# Altium footprint library LED.PcbLib: 41 footprints (part 3 of 3)
Each footprint in its own frame and in the unit in brackets; x right, y up, seen from the top. Pads: shape width x height; smd on the part's side, far side on the other; paste and mask are expansions set on the pad; w line width, h text height; cw(c..) or ccw(c..) is an arc to the next point about the centre after c.
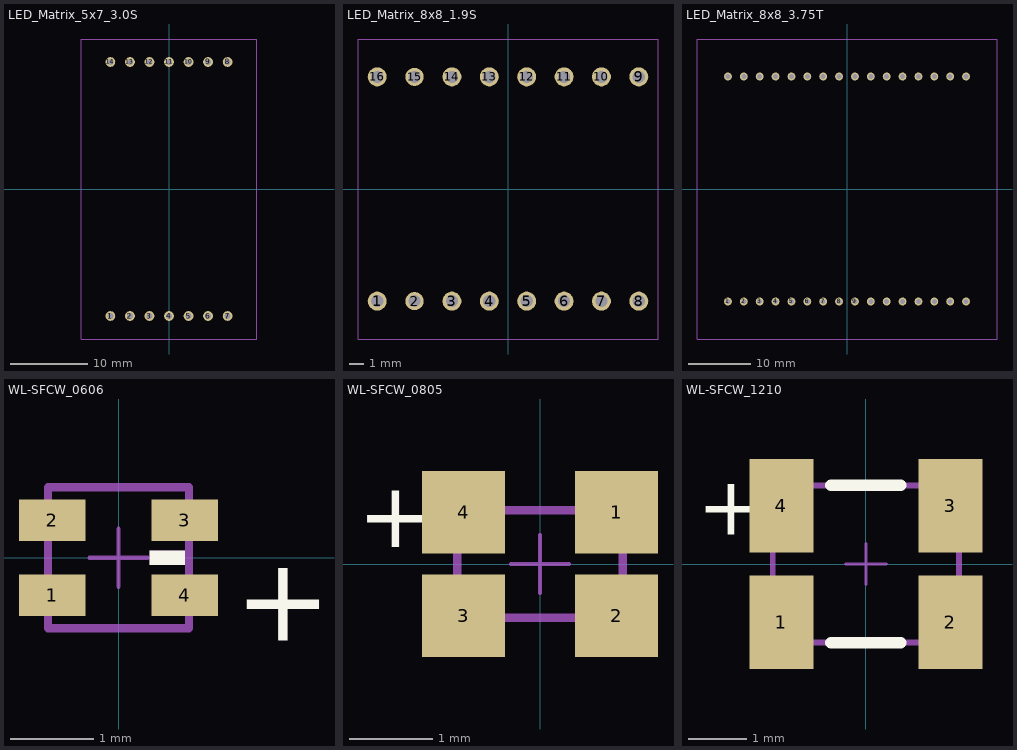
[diagram p2: the footprints below, top view; thin cyan lines are the x and y axes]

## LED_DIP2_5_RED [mil]
height 47.24
3D body "SW3dPS-LEDd5R.STEP": height 484.75, standoff -97.93, extent -123.39,-123.5 90,113.5

## LED_DIP2_5_WHITE [mil]
height 47.24
3D body "SW3dPS-LEDd5C.STEP": height 484.75, standoff -97.93, extent -107.31,-118.49 106.08,118.5

## LED_DIP2_5_YELLOW [mil]
height 47.24
3D body "SW3dPS-LEDd5Y.STEP": height 484.75, standoff -97.93, extent -113.39,-113.5 100,123.5

## LED_Matrix_5x7_3.0S [mil]
pads (14):
  round 50 hole 32: 1(-300,-650) 2(-200,-650) 3(-100,-650) 4(0,-650) 5(100,-650) 6(200,-650) 7(300,-650) 8(300,650) 9(200,650) 10(100,650) 11(0,650) 12(-100,650) 13(-200,650) 14(-300,650)
Mechanical 14:
  lines w2: -448.82,-767.72 -448.82,767.72 448.82,767.72 448.82,-767.72 -448.82,-767.72

## LED_Matrix_8x8_1.9S [mm]
pads (16):
  round 1.27 hole 0.813: 1(-8.75,-7.5) 3(-3.75,-7.5) 4(-1.25,-7.5) 5(1.25,-7.5) 6(3.75,-7.5) 7(6.25,-7.5) 8(8.75,-7.5) 9(8.75,7.5) 10(6.25,7.5) 11(3.75,7.5) 12(1.25,7.5) 13(-1.25,7.5) 14(-3.75,7.5) 16(-8.75,7.5)
  round 1.219 hole 0.813: 2(-6.25,-7.5) 15(-6.25,7.5)
Mechanical 14:
  lines w0.051: -10.033,-10.033 -10.033,10.033 10.033,10.033 10.033,-10.033 -10.033,-10.033
3D body "User Library-1_9mm matrix.STEP": height 6, standoff -5, extent -10,-10 10,10

## LED_Matrix_8x8_3.75T [mil]
pads (32):
  round 50 hole 32: 1(-750,-708.66) 2(-650,-708.66) 3(-550,-708.66) 4(-450,-708.66) 5(-350,-708.66) 6(-250,-708.66) 7(-150,-708.66) 8(-50,-708.66) 9(50,-708.66) 10(150,-708.66) 11(250,-708.66) 12(350,-708.66) 13(450,-708.66) 14(550,-708.66) 15(650,-708.66) 16(750,-708.66) 17(750,708.66) 18(650,708.66) 19(550,708.66) 20(450,708.66) 21(350,708.66) 22(250,708.66) 23(150,708.66) 24(50,708.66) 25(-50,708.66) 26(-150,708.66) 27(-250,708.66) 28(-350,708.66) 29(-450,708.66) 30(-550,708.66) 31(-650,708.66) 32(-750,708.66)
Mechanical 14:
  lines w2: -944.88,-944.88 -944.88,944.88 944.88,944.88 944.88,-944.88 -944.88,-944.88
Mechanical 15:
  lines w2: -750,708.66 -750,717.32 ; 750,-717.32 750,-708.66

## WL-SFCW_0606 [mm] "SMD Full-color Chip LED Waterclear, body 1.6x1.6"
height 0.4
pads (4):
  rect 0.8x0.5 smd: 1(-0.8,-0.45) 2(-0.8,0.45) 3(0.8,0.45) 4(0.8,-0.45)
Top Overlay:
  rectangle: 0.37,-0.09 0.8,0.09
  text "+" at 1.4,-1 h1.02
Mechanical 13:
  rectangle: 0.37,-0.09 0.8,0.09
  lines w0.1: -0.85,-0.85 -0.85,0.85 0.85,0.85 0.85,-0.85 -0.85,-0.85
Mechanical 15:
  lines w0.05: -0.35,0 0.35,0 ; 0,-0.35 0,0.35
3D body "150066M173000.stp": height 0.42, standoff 0.02, extent -0.8,-0.8 0.8,0.8

## WL-SFCW_0805 [mm] "SMD Full-color Chip LED Waterclear, body 2.0x1.3"
height 0.5
pads (4):
  rect 1x1 smd: 1(0.925,0.625) 2(0.925,-0.625) 3(-0.925,-0.625) 4(-0.925,0.625)
Top Overlay:
  text "+" at -2.2,0.2 h0.8
Mechanical 13:
  lines w0.1: -1,-0.65 1,-0.65 1,0.65 -1,0.65 -1,-0.65
Mechanical 15:
  lines w0.05: -0.35,0 0.35,0 ; 0,-0.35 0,0.35
3D body "150080M173000.stp": height 0.52, standoff 0.02, extent -1,-0.65 1,0.65

## WL-SFCW_1210 [mm] "SMD Full-color Chip LED Waterclear, body 3.2x2.7"
height 1.1
pads (4):
  rect 1.1x1.6 smd: 1(-1.45,-1) 2(1.45,-1) 3(1.45,1) 4(-1.45,1)
Top Overlay:
  lines w0.2: -0.6,-1.35 0.6,-1.35 ; -0.6,1.35 0.6,1.35
  text "+" at -2.9,0.5 h1.02
Mechanical 13:
  lines w0.1: -1.6,-1.35 -1.6,1.35 1.6,1.35 1.6,-1.35 -1.6,-1.35
Mechanical 15:
  lines w0.05: -0.35,0 0.35,0 ; 0,-0.35 0,0.35
3D body "150121M173000.stp": height 1.11, standoff 0.01, extent -1.6,-1.35 1.6,1.35